# Altium footprint library Connectors.PcbLib: 73 footprints (part 4 of 5)
Each footprint in its own frame and in the unit in brackets; x right, y up, seen from the top. Pads: shape width x height; smd on the part's side, far side on the other; paste and mask are expansions set on the pad; w line width, h text height; cw(c..) or ccw(c..) is an arc to the next point about the centre after c.
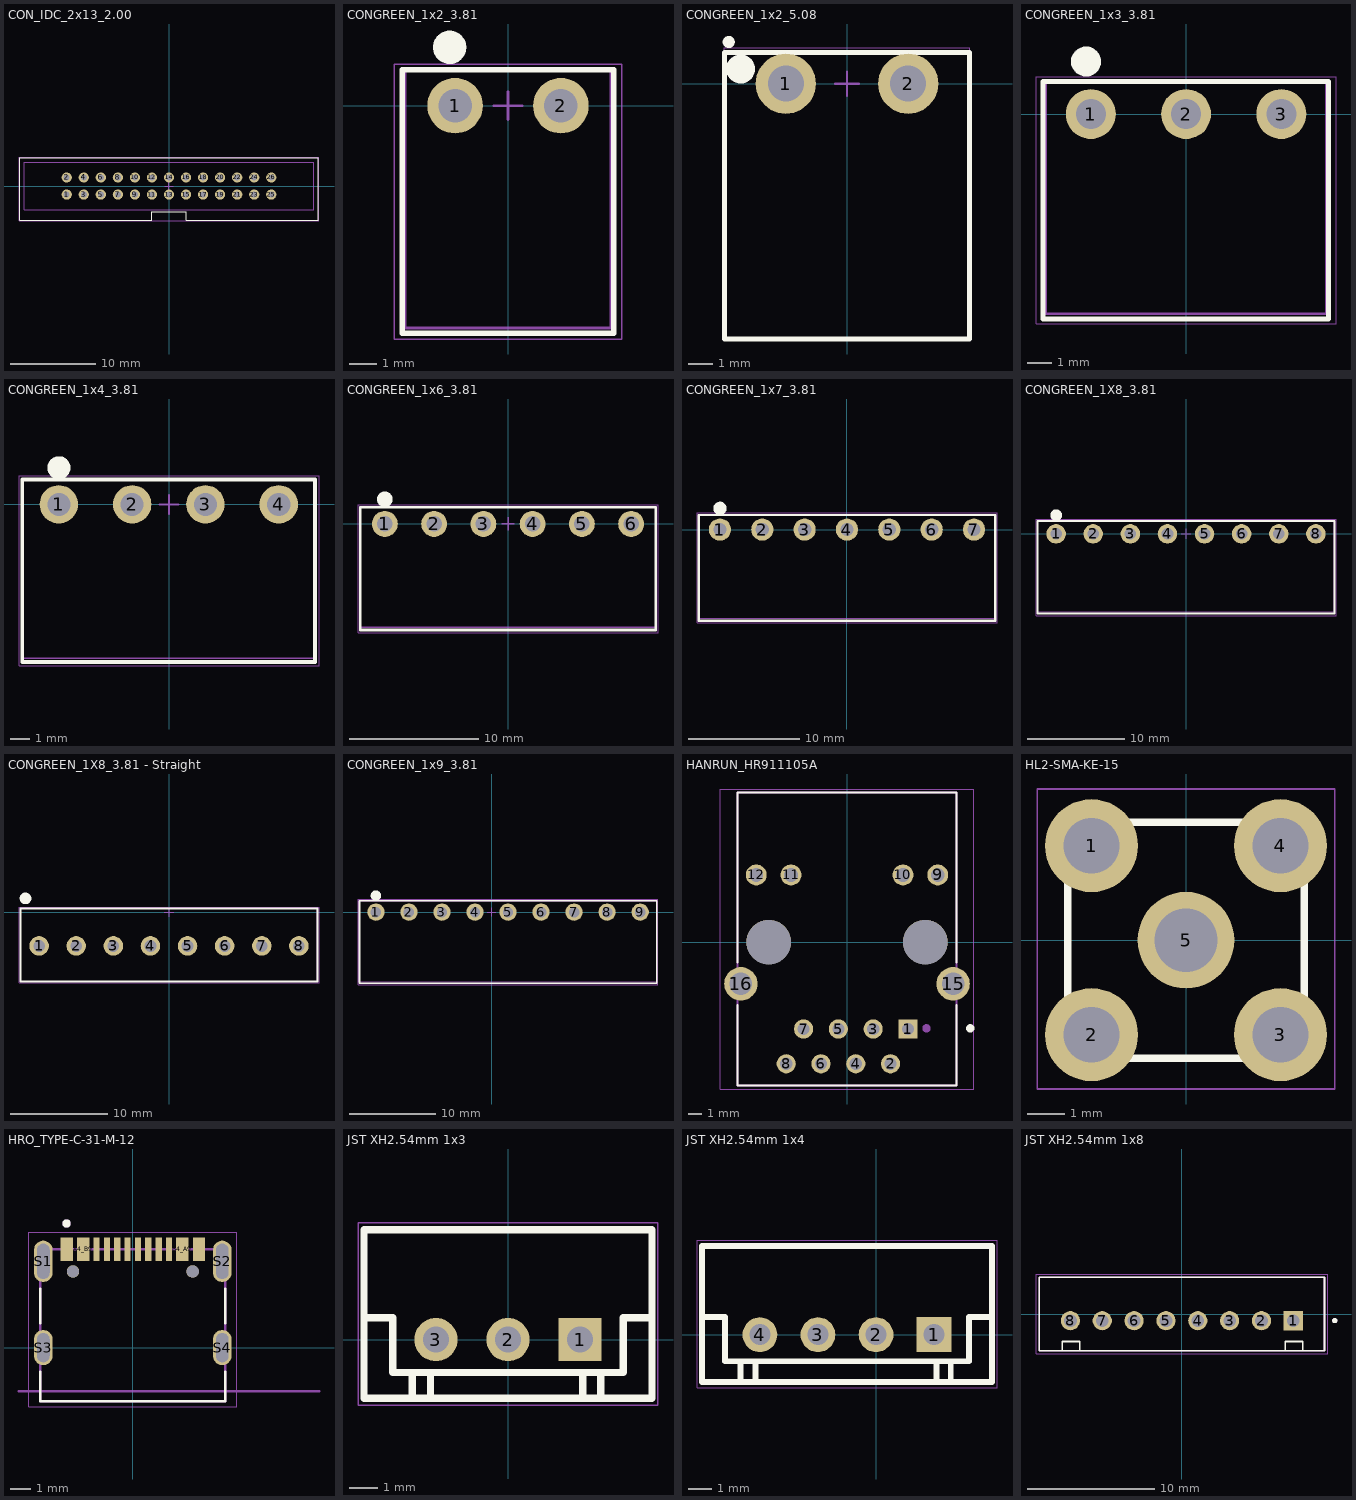
[diagram p3: the footprints below, top view; thin cyan lines are the x and y axes]

## CON_IDC_2x13_2.00 [mm]
height 1.4
pads (26):
  round 1.2 hole 0.7: 1(-12,-1) 2(-12,1) 3(-10,-1) 4(-10,1) 5(-8,-1) 6(-8,1) 7(-6,-1) 8(-6,1) 9(-4,-1) 10(-4,1) 11(-2,-1) 12(-2,1) 13(0,-1) 14(0,1) 15(2,-1) 16(2,1) 17(4,-1) 18(4,1) 19(6,-1) 20(6,1) 21(8,-1) 22(8,1) 23(10,-1) 24(10,1) 25(12,-1) 26(12,1)
Top Overlay:
  lines w0.1: -17.5,-4 -17.5,3.3 17.5,3.3 17.5,-4 2,-4 2,-3 -2,-3 -2,-4 -17.5,-4
Mechanical 13:
  lines w0.1: -17,-2.8 -17,2.8 17,2.8 17,-2.8 -17,-2.8
Mechanical 15:
  lines w0.05: -17.6,-4.1 -17.6,3.4 17.6,3.4 17.6,-4.1 -17.6,-4.1
  lines w0.1: -0.5,0 0.5,0 ; 0,-0.5 0,0.5
3D body: height 5.65, standoff 0.1, extent -17,-2.8 -16.7,2.8
3D body: height 5.65, standoff 0.1, extent 16.7,-2.8 17,2.8
3D body: height 5.65, standoff 0.1, extent -17,2.5 17,2.8
3D body: height 5.65, standoff 0.1, extent -17,-2.8 -2,-2.5
3D body: height 5.5, standoff -2.8, extent -12.2,-1.2 -11.8,-0.8
3D body: height 5.5, standoff -2.8, extent -10.2,-1.2 -9.8,-0.8
3D body: height 5.5, standoff -2.8, extent -8.2,-1.2 -7.8,-0.8
3D body: height 5.5, standoff -2.8, extent -6.2,-1.2 -5.8,-0.8
3D body: height 5.5, standoff -2.8, extent -4.2,-1.2 -3.8,-0.8
3D body: height 5.5, standoff -2.8, extent -2.2,-1.2 -1.8,-0.8
3D body: height 5.5, standoff -2.8, extent -0.2,-1.2 0.2,-0.8
3D body: height 5.5, standoff -2.8, extent 1.8,-1.2 2.2,-0.8
3D body: height 5.5, standoff -2.8, extent 3.8,-1.2 4.2,-0.8
3D body: height 5.5, standoff -2.8, extent 5.8,-1.2 6.2,-0.8
3D body: height 5.5, standoff -2.8, extent 7.8,-1.2 8.2,-0.8
3D body: height 5.5, standoff -2.8, extent 9.8,-1.2 10.2,-0.8
3D body: height 5.5, standoff -2.8, extent 11.8,-1.2 12.2,-0.8
3D body: height 5.5, standoff -2.8, extent 11.8,0.8 12.2,1.2
3D body: height 5.5, standoff -2.8, extent 9.8,0.8 10.2,1.2
3D body: height 5.5, standoff -2.8, extent 7.8,0.8 8.2,1.2
3D body: height 5.5, standoff -2.8, extent 5.8,0.8 6.2,1.2
3D body: height 5.5, standoff -2.8, extent 3.8,0.8 4.2,1.2
3D body: height 5.5, standoff -2.8, extent 1.8,0.8 2.2,1.2
3D body: height 5.5, standoff -2.8, extent -0.2,0.8 0.2,1.2
3D body: height 5.5, standoff -2.8, extent -2.2,0.8 -1.8,1.2
3D body: height 5.5, standoff -2.8, extent -4.2,0.8 -3.8,1.2
3D body: height 5.5, standoff -2.8, extent -6.2,0.8 -5.8,1.2
3D body: height 5.5, standoff -2.8, extent -8.2,0.8 -7.8,1.2
3D body: height 5.5, standoff -2.8, extent -10.2,0.8 -9.8,1.2
3D body: height 5.5, standoff -2.8, extent -12.2,0.8 -11.8,1.2
3D body: height 5.65, standoff 0.1, extent 2,-2.8 17,-2.5
3D body: height 1.4, standoff 0.1, extent -17,-2.8 17,2.8

## CONGREEN_1x2_3.81 [mm]
height 4.8
pads (2):
  round 2 hole 1.2: 1(-1.905,0) 2(1.905,0)
Top Overlay:
  circle w0.6: c-2.1,2.1 r0.3
  lines w0.2: -3.81,-8.2 -3.81,1.3 ; -3.8,-8.2 3.8,-8.2 ; -3.8,1.3 3.8,1.3 ; 3.81,-8.2 3.81,1.3
Mechanical 13:
  lines w0.1: -3.7,-8 3.7,-8 3.7,1.3 -3.7,1.3 -3.7,-8
Mechanical 15:
  lines w0.05: -4.1,-8.4 4.1,-8.4 4.1,1.5 -4.1,1.5 -4.1,-8.4
  lines w0.1: -0.5,0 0.5,0 ; 0,-0.5 0,0.5
3D body: height 3.6, standoff -3.6, extent 1.455,-0.45 2.355,0.45
3D body: height 3.8, standoff 3, extent 1.46,-7.6 2.36,0.4
3D body: height 6.8, standoff 6, extent -3.7,-8 3.8,1.29
3D body: height 0.9, standoff 0.1, extent -3.7,-8 3.7,1.29
3D body: height 6.8, standoff 0.1, extent -3.7,-1.5 3.7,1.35
3D body: height 3.8, standoff 3, extent -2.35,-7.6 -1.45,0.4
3D body: height 3.6, standoff -3.6, extent -2.355,-0.45 -1.455,0.45

## CONGREEN_1x2_5.08 [mm]
height 4.8
pads (2):
  round 2.5 hole 1.5: 1(-2.54,0) 2(2.54,0)
Top Overlay:
  circle w0.25: c-4.91,1.73 r0.125
  circle w0.6: c-4.42,0.61 r0.3
  lines w0.2: -5.08,-10.6 -5.08,1.3 5.08,1.3 5.08,-10.6 -5.08,-10.6
Mechanical 13:
  circle w0.1: c-4.43,0.61 r0.5
  lines w0.1: -5.08,-10.6 -5.08,1.3 5.08,1.3 5.08,-10.6 -5.08,-10.6
Mechanical 15:
  lines w0.05: -5.1,-10.6 -5.1,1.5 5.1,1.5 5.1,-10.6 -5.1,-10.6
  lines w0.1: -0.5,0 0.5,0 ; 0,-0.5 0,0.5
3D body: height 3.6, standoff -3.6, extent -3.04,-0.5 -2.04,0.5
3D body: height 3.6, standoff -3.6, extent 2.04,-0.5 3.04,0.5
3D body: height 4.6, standoff 3.6, extent 2.02,-9.5 3.02,0.55
3D body: height 4.6, standoff 3.6, extent -3.03,-9.5 -2.03,0.6
3D body: height 8.2, standoff 0.1, extent -5.08,-3.35 5.08,1.35
3D body: height 1.8, standoff 0.1, extent -5.08,-10.62 5.08,1.29
3D body: height 9, standoff 8.2, extent -5.09,-10.622 5.07,-7.9
3D body: height 8.2, standoff 6.5, extent -5.08,-10.62 5.08,1.29

## CONGREEN_1x3_3.81 [mm] "SOIC, 100-Leads, Body 64,17x3,05mm, Pitch 1,27mm, IPC Medium Density"
height 4.8
pads (3):
  round 2 hole 1.2: 1(-3.81,0) 2(0,0) 3(3.81,0)
Top Overlay:
  circle w0.6: c-4.005,2.1 r0.3
  lines w0.2: -5.715,-8.2 -5.715,1.3 ; -5.705,-8.2 5.7,-8.2 5.7,1.3 -5.705,1.3
Mechanical 13:
  lines w0.1: -5.605,-8 -5.605,1.3 5.6,1.3 5.6,-8 -5.605,-8
Mechanical 15:
  lines w0.05: -6.005,-8.4 -6.005,1.5 6,1.5 6,-8.4 -6.005,-8.4
  lines w0.1: -0.505,0 0.495,0 ; -0.005,-0.5 -0.005,0.5 ; 3.305,0 4.305,0 ; 3.805,-0.5 3.805,0.5
3D body: height 3.6, standoff -3.6, extent 3.36,-0.45 4.26,0.45
3D body: height 3.8, standoff 3, extent 3.365,-7.6 4.265,0.4
3D body: height 3.6, standoff -3.6, extent -4.26,-0.45 -3.36,0.45
3D body: height 3.8, standoff 3, extent -4.255,-7.6 -3.355,0.4
3D body: height 6.8, standoff 0.1, extent -5.605,-1.5 5.6,1.35
3D body: height 0.9, standoff 0.1, extent -5.605,-8 5.6,1.29
3D body: height 6.8, standoff 6, extent -5.605,-8 5.6,1.29
3D body: height 3.8, standoff 3, extent -0.445,-7.6 0.455,0.4
3D body: height 3.6, standoff -3.6, extent -0.45,-0.45 0.45,0.45

## CONGREEN_1x4_3.81 [mm] "SOIC, 100-Leads, Body 64,17x3,05mm, Pitch 1,27mm, IPC Medium Density"
height 4.8
pads (4):
  round 2 hole 1.2: 1(-5.725,0) 2(-1.915,0) 3(1.895,0) 4(5.705,0)
Top Overlay:
  circle w0.6: c-5.725,1.905 r0.3
  lines w0.2: -7.63,-8.2 7.6,-8.2 7.6,1.3 -7.63,1.3 -7.63,-8.2
Mechanical 13:
  lines w0.1: -7.63,-8 7.6,-8 7.6,1.3 -7.63,1.3 -7.63,-8
Mechanical 15:
  lines w0.05: -7.8,-8.4 7.8,-8.4 7.8,1.5 -7.8,1.5 -7.8,-8.4
  lines w0.1: -0.5,0 0.5,0 ; 0,-0.5 0,0.5
3D body: height 6.8, standoff 6, extent -7.63,-8 7.6,1.29
3D body: height 0.9, standoff 0.1, extent -7.63,-8 7.6,1.3
3D body: height 6.8, standoff 0.1, extent -7.63,-1.5 7.6,1.35
3D body: height 3.8, standoff 3, extent 5.26,-7.6 6.16,0.4
3D body: height 3.6, standoff -3.6, extent 5.255,-0.45 6.155,0.45
3D body: height 3.6, standoff -3.6, extent 1.445,-0.45 2.345,0.45
3D body: height 3.8, standoff 3, extent 1.45,-7.6 2.35,0.4
3D body: height 3.6, standoff -3.6, extent -2.365,-0.45 -1.465,0.45
3D body: height 3.8, standoff 3, extent -2.36,-7.6 -1.46,0.4
3D body: height 3.6, standoff -3.6, extent -6.175,-0.45 -5.275,0.45
3D body: height 3.8, standoff 3, extent -6.17,-7.6 -5.27,0.4

## CONGREEN_1x6_3.81 [mm] "SOIC, 100-Leads, Body 64,17x3,05mm, Pitch 1,27mm, IPC Medium Density"
height 4.8
pads (6):
  round 2 hole 1.2: 1(-9.525,0) 2(-5.715,0) 3(-1.905,0) 4(1.905,0) 5(5.715,0) 6(9.525,0)
Top Overlay:
  circle w0.6: c-9.525,1.905 r0.3
  lines w0.2: -11.43,-8.2 -11.43,1.3 11.43,1.3 11.43,-8.2 -11.43,-8.2
Mechanical 13:
  lines w0.1: -11.43,-8 -11.43,1.3 11.43,1.3 11.43,-8 -11.43,-8
Mechanical 15:
  lines w0.05: -11.6,-8.4 -11.6,1.5 11.6,1.5 11.6,-8.4 -11.6,-8.4
  lines w0.1: -0.5,0 0.5,0 ; 0,-0.5 0,0.5
3D body: height 3.8, standoff 3, extent 9.08,-7.6 9.98,0.4
3D body: height 3.6, standoff -3.6, extent 9.075,-0.45 9.975,0.45
3D body: height 3.8, standoff 3, extent -9.97,-7.6 -9.07,0.4
3D body: height 3.6, standoff -3.6, extent -9.975,-0.45 -9.075,0.45
3D body: height 3.8, standoff 3, extent -6.16,-7.6 -5.26,0.4
3D body: height 3.6, standoff -3.6, extent -6.165,-0.45 -5.265,0.45
3D body: height 3.8, standoff 3, extent -2.35,-7.6 -1.45,0.4
3D body: height 3.6, standoff -3.6, extent -2.355,-0.45 -1.455,0.45
3D body: height 3.6, standoff -3.6, extent 1.455,-0.45 2.355,0.45
3D body: height 3.8, standoff 3, extent 1.46,-7.6 2.36,0.4
3D body: height 6.8, standoff 0.1, extent -11.43,-1.5 11.43,1.35
3D body: height 0.9, standoff 0.1, extent -11.43,-8 11.43,1.29
3D body: height 6.8, standoff 6, extent -11.43,-8 11.43,1.29
3D body: height 3.8, standoff 3, extent 5.27,-7.6 6.17,0.4
3D body: height 3.6, standoff -3.6, extent 5.265,-0.45 6.165,0.45

## CONGREEN_1x7_3.81 [mm]
height 4.8
pads (7):
  round 2 hole 1.2: 1(-11.43,0) 2(-7.62,0) 3(-3.81,0) 4(0,0) 5(3.81,0) 6(7.62,0) 7(11.43,0)
Top Overlay:
  circle w0.6: c-11.43,1.905 r0.3
  lines w0.2: -13.335,-8.2 13.335,-8.2 13.335,1.3 -13.335,1.3 -13.335,-8.2
Mechanical 13:
  lines w0.1: -13.335,-8 13.335,-8 13.335,1.3 -13.335,1.3 -13.335,-8
Mechanical 15:
  lines w0.05: -13.495,-8.4 13.5,-8.4 13.5,1.5 -13.495,1.5 -13.495,-8.4
  lines w0.1: -0.5,0 0.5,0 ; 0,-0.5 0,0.5
3D body: height 3.6, standoff -3.6, extent 3.36,-0.45 4.26,0.45
3D body: height 3.8, standoff 3, extent 3.365,-7.6 4.265,0.4
3D body: height 6.8, standoff 6, extent -13.335,-8 13.335,1.29
3D body: height 0.9, standoff 0.1, extent -13.335,-8 13.335,1.29
3D body: height 6.8, standoff 0.1, extent -13.335,-1.5 13.335,1.35
3D body: height 3.8, standoff 3, extent -0.445,-7.6 0.455,0.4
3D body: height 3.6, standoff -3.6, extent -0.45,-0.45 0.45,0.45
3D body: height 3.6, standoff -3.6, extent -4.26,-0.45 -3.36,0.45
3D body: height 3.8, standoff 3, extent -4.255,-7.6 -3.355,0.4
3D body: height 3.6, standoff -3.6, extent -8.07,-0.45 -7.17,0.45
3D body: height 3.8, standoff 3, extent -8.065,-7.6 -7.165,0.4
3D body: height 3.6, standoff -3.6, extent -11.88,-0.45 -10.98,0.45
3D body: height 3.8, standoff 3, extent -11.875,-7.6 -10.975,0.4
3D body: height 3.6, standoff -3.6, extent 7.17,-0.45 8.07,0.45
3D body: height 3.8, standoff 3, extent 7.175,-7.6 8.075,0.4
3D body: height 3.6, standoff -3.6, extent 10.98,-0.45 11.88,0.45
3D body: height 3.8, standoff 3, extent 10.985,-7.6 11.885,0.4

## CONGREEN_1X8_3.81 [mm] "SOIC, 100-Leads, Body 64,17x3,05mm, Pitch 1,27mm, IPC Medium Density"
height 4.8
pads (8):
  round 2 hole 1.2: 1(-13.335,0) 2(-9.525,0) 3(-5.715,0) 4(-1.905,0) 5(1.905,0) 6(5.715,0) 7(9.525,0) 8(13.335,0)
Top Overlay:
  circle w0.6: c-13.335,1.905 r0.3
  lines w0.2: -15.24,-8.2 15.24,-8.2 15.24,1.3 -15.24,1.3 -15.24,-8.2
Mechanical 13:
  lines w0.1: -15.24,-8 15.24,-8 15.24,1.3 -15.24,1.3 -15.24,-8
Mechanical 15:
  lines w0.05: -15.4,-8.4 15.4,-8.4 15.4,1.5 -15.4,1.5 -15.4,-8.4
  lines w0.1: -0.5,0 0.5,0 ; 0,-0.5 0,0.5
3D body: height 3.6, standoff -3.6, extent 1.455,-0.45 2.355,0.45
3D body: height 3.8, standoff 3, extent 1.46,-7.6 2.36,0.4
3D body: height 6.8, standoff 6, extent -15.24,-8 15.24,1.29
3D body: height 0.9, standoff 0.1, extent -15.24,-8 15.24,1.29
3D body: height 6.8, standoff 0.1, extent -15.24,-1.5 15.24,1.35
3D body: height 3.8, standoff 3, extent -2.35,-7.6 -1.45,0.4
3D body: height 3.6, standoff -3.6, extent -2.355,-0.45 -1.455,0.45
3D body: height 3.6, standoff -3.6, extent -6.165,-0.45 -5.265,0.45
3D body: height 3.8, standoff 3, extent -6.16,-7.6 -5.26,0.4
3D body: height 3.6, standoff -3.6, extent -9.975,-0.45 -9.075,0.45
3D body: height 3.8, standoff 3, extent -9.97,-7.6 -9.07,0.4
3D body: height 3.6, standoff -3.6, extent -13.785,-0.45 -12.885,0.45
3D body: height 3.8, standoff 3, extent -13.78,-7.6 -12.88,0.4
3D body: height 3.6, standoff -3.6, extent 5.265,-0.45 6.165,0.45
3D body: height 3.8, standoff 3, extent 5.27,-7.6 6.17,0.4
3D body: height 3.6, standoff -3.6, extent 9.075,-0.45 9.975,0.45
3D body: height 3.8, standoff 3, extent 9.08,-7.6 9.98,0.4
3D body: height 3.6, standoff -3.6, extent 12.885,-0.45 13.785,0.45
3D body: height 3.8, standoff 3, extent 12.89,-7.6 13.79,0.4

## CONGREEN_1X8_3.81 - Straight [mm] "Straight Pin 3.81MM Pitch green connector"
height 4.8
pads (8):
  round 2 hole 1.2: 1(-13.335,-3.48) 2(-9.525,-3.48) 3(-5.715,-3.48) 4(-1.905,-3.48) 5(1.905,-3.48) 6(5.715,-3.48) 7(9.525,-3.48) 8(13.335,-3.48)
Top Overlay:
  circle w0.6: c-14.732,1.397 r0.3
  lines w0.2: -15.24,-7.112 -15.24,0.381 15.24,0.381 15.24,-7.112 -15.24,-7.112
Mechanical 13:
  lines w0.1: -15.24,-7.112 -15.24,0.381 15.24,0.381 15.24,-7.112 -15.24,-7.112
Mechanical 15:
  lines w0.05: -15.4,-7.239 -15.4,0.508 15.4,0.508 15.4,-7.239 -15.4,-7.239
  lines w0.1: -0.5,0 0.5,0 ; 0,-0.5 0,0.5
3D body: height 6, standoff -1.2, extent -9.975,-3.93 -9.075,-3.03
3D body: height 6, standoff -1.2, extent 12.885,-3.93 13.785,-3.03
3D body: height 6, standoff -1.2, extent 9.075,-3.93 9.975,-3.03
3D body: height 6, standoff -1.2, extent 5.265,-3.93 6.165,-3.03
3D body: height 6, standoff -1.2, extent -13.785,-3.93 -12.885,-3.03
3D body: height 6, standoff -1.2, extent -6.165,-3.93 -5.265,-3.03
3D body: height 6, standoff -1.2, extent -2.355,-3.93 -1.455,-3.03
3D body: height 0.9, standoff 0.1, extent -15.24,-7.112 15.24,0.381
3D body: height 6, standoff -1.2, extent 1.455,-3.93 2.355,-3.03
3D body: height 8, standoff 0.1, extent -15.24,-0.381 15.24,0.381
3D body: height 8, standoff 0.1, extent -15.24,-7.112 15.24,-6.35

## CONGREEN_1x9_3.81 [mm] "SOIC, 100-Leads, Body 64,17x3,05mm, Pitch 1,27mm, IPC Medium Density"
height 4.8
pads (9):
  round 2 hole 1.2: 1(-13.335,0) 2(-9.525,0) 3(-5.715,0) 4(-1.905,0) 5(1.905,0) 6(5.715,0) 7(9.525,0) 8(13.335,0) 9(17.145,0)
Top Overlay:
  circle w0.6: c-13.335,1.905 r0.3
  lines w0.2: -15.24,-8.2 -15.24,1.3 19.05,1.3 19.05,-8.2 -15.24,-8.2
Mechanical 13:
  lines w0.1: -15.24,-8 -15.24,1.3 19.05,1.3 19.05,-8 -15.24,-8
Mechanical 15:
  lines w0.05: -15.4,-8.4 -15.4,1.5 19.2,1.5 19.2,-8.4 -15.4,-8.4
  lines w0.1: -0.5,0 0.5,0 ; 0,-0.5 0,0.5
3D body: height 3.8, standoff 3, extent 12.89,-7.6 13.79,0.4
3D body: height 3.6, standoff -3.6, extent 12.885,-0.45 13.785,0.45
3D body: height 3.8, standoff 3, extent 9.08,-7.6 9.98,0.4
3D body: height 3.6, standoff -3.6, extent 9.075,-0.45 9.975,0.45
3D body: height 3.8, standoff 3, extent 5.27,-7.6 6.17,0.4
3D body: height 3.6, standoff -3.6, extent 5.265,-0.45 6.165,0.45
3D body: height 3.8, standoff 3, extent -13.78,-7.6 -12.88,0.4
3D body: height 3.6, standoff -3.6, extent -13.785,-0.45 -12.885,0.45
3D body: height 3.8, standoff 3, extent -9.97,-7.6 -9.07,0.4
3D body: height 3.6, standoff -3.6, extent -9.975,-0.45 -9.075,0.45
3D body: height 3.8, standoff 3, extent -6.16,-7.6 -5.26,0.4
3D body: height 3.6, standoff -3.6, extent -6.165,-0.45 -5.265,0.45
3D body: height 3.6, standoff -3.6, extent -2.355,-0.45 -1.455,0.45
3D body: height 3.8, standoff 3, extent -2.35,-7.6 -1.45,0.4
3D body: height 6.8, standoff 0.1, extent -15.24,-1.5 19.05,1.35
3D body: height 0.9, standoff 0.1, extent -15.24,-8 19.05,1.29
3D body: height 6.8, standoff 6, extent -15.24,-8 19.05,1.29
3D body: height 3.8, standoff 3, extent 1.46,-7.6 2.36,0.4
3D body: height 3.6, standoff -3.6, extent 1.455,-0.45 2.355,0.45
3D body: height 3.6, standoff -3.6, extent 16.695,-0.45 17.595,0.45
3D body: height 3.8, standoff 3, extent 16.7,-7.6 17.6,0.4

## HANRUN_HR911105A [mm]
pads (16):
  rect 1.398x1.398 / inner round 1.398 / far side rect 1.398x1.398 hole 0.89: 1(4.45,-6.35)
  round 1.398 hole 0.89: 2(3.18,-8.89) 3(1.91,-6.35) 4(0.64,-8.89) 5(-0.63,-6.35) 6(-1.9,-8.89) 7(-3.17,-6.35) 8(-4.44,-8.89)
  round 1.53 hole 1.02: 9(6.625,4.9) 10(4.085,4.9) 11(-4.085,4.9) 12(-6.625,4.9)
  round 2.445 hole 1.63: 15(7.745,-3.05) 16(-7.745,-3.05)
  round 3.25 hole 3.25 unplated: ""(-5.715,0) ""(5.715,0)
Top Overlay:
  circle w0.3: c9,-6.3 r0.15
  lines w0.127: -8,-4.6 -8,-10.48 8,-10.48 8,-4.6 ; -8,-1.5 -8,10.92 8,10.92 8,-1.5
Mechanical 13:
  circle w0.3: c5.8,-6.3 r0.15
  lines w0.127: -8,-10.48 -8,10.92 8,10.92 8,-10.48 -8,-10.48
Mechanical 15:
  lines w0.05: -9.25,-10.73 -9.25,11.17 9.25,11.17 9.25,-10.73 -9.25,-10.73
3D body "step_temp.STEP": height 13.5, standoff -3.05, extent -8.02,-10.525 8.02,10.775

## HL2-SMA-KE-15 [mm] "Through Hole Coaxial Connector (RF) Adapters RoHS"
height 4.8
pads (5):
  round 2.5 hole 1.5: 1(-2.54,2.54) 2(-2.54,-2.54) 3(2.54,-2.54) 4(2.54,2.54)
  round 2.6 hole 1.7: 5(0,0)
Top Overlay:
  lines w0.2: -3.175,-3.175 3.175,-3.175 3.175,3.175 -3.175,3.175 -3.175,-3.175
Mechanical 13:
  lines w0.1: -3.175,-3.175 -3.175,3.175 3.175,3.175 3.175,-3.175 -3.175,-3.175
Mechanical 15:
  lines w0.05: -4,-4 4,-4 4,4.064 -4,4.064 -4,-4
  lines w0.1: -0.5,0 0.5,0 ; 0,-0.5 0,0.5
3D body: height 11, standoff 0.1, extent -3.175,-3.175 3.175,3.175

## HRO_TYPE-C-31-M-12 [mm]
height 3.26
pads (18):
  rect 0.6x1.14 smd mask+0.05: A1_B12(-3.2,4.75) A4_B9(-2.4,4.75) B1_A12(3.2,4.75) B4_A9(2.4,4.75)
  rect 0.3x1.14 smd mask+0.05: A5(-1.25,4.75) A6(-0.25,4.75) A7(0.25,4.75) A8(1.25,4.75) B5(1.75,4.75) B6(0.75,4.75) B7(-0.75,4.75) B8(-1.75,4.75)
  oval 0.9x2 hole 0.6 slot 1.7 at 90 deg: S1(-4.325,4.17) S2(4.325,4.17)
  oval 0.9x1.7 hole 0.6 slot 1.4 at 90 deg: S3(-4.325,0) S4(4.325,0)
  round 0.6 hole 0.6 unplated: ""(-2.89,3.68) ""(2.89,3.68)
Top Overlay:
  circle w0.2: c-3.2,6 r0.1
  lines w0.127: -4.47,-1.17 -4.47,-2.6 4.47,-2.6 4.47,-1.17 ; -4.47,1.17 -4.47,2.85 ; 4.47,1.17 4.47,2.85
Mechanical 13:
  circle w0.2: c-3.2,6 r0.1
  lines w0.127: -5.5,-2.11 9,-2.11 ; -4.47,-2.6 -4.47,4.75 4.47,4.75 4.47,-2.6 -4.47,-2.6
  text "PCB EDGE" at 5.2,-1.9 h0.61
Mechanical 15:
  lines w0.05: -5.025,-2.85 5.025,-2.85 5.025,5.57 -5.025,5.57 -5.025,-2.85
3D body "step_temp.STEP": height 3.31, standoff -0.99, extent -4.47,-2.6 4.47,5.305

## JST XH2.54mm 1x3 [mm]
pads (3):
  rect 1.5x1.5 hole 0.9 paste-2539.97 mask+0.051: 1(2.5,0)
  round 1.5 hole 0.9 paste-2539.97 mask+0.051: 2(0,0) 3(-2.5,0)
Top Overlay:
  lines w0.254: -5,0.762 -3.997,0.762 -3.997,-1.143 3.997,-1.143 3.997,0.762 5,0.762 ; -3.327,-1.932 -3.327,-1.143 ; -2.692,-1.932 -2.692,-1.143 ; 2.599,-1.932 2.599,-1.143 ; 3.216,-1.932 3.216,-1.143 ; -5,-2.032 5,-2.032 5,3.81 -5,3.81 -5,-2.032
Mechanical 15:
  lines w0.05: -5.207,-2.286 -5.207,4.064 5.207,4.064 5.207,-2.286 -5.207,-2.286
3D body "XH 2,54_3p (1).STEP": height 7.1, standoff -3.3, extent -4.95,-1.986 4.95,3.764

## JST XH2.54mm 1x4 [mm]
pads (4):
  rect 1.5x1.5 hole 0.9 paste-2539.97 mask+0.051: 1(2.5,0)
  round 1.5 hole 0.9 paste-2539.97 mask+0.051: 2(0,0) 3(-2.5,0) 4(-5,0)
Top Overlay:
  lines w0.254: -7.5,0.762 -6.497,0.762 -6.497,-1.143 -3.997,-1.143 3.997,-1.143 3.997,0.762 5,0.762 ; -5.827,-1.932 -5.827,-1.143 ; -5.192,-1.932 -5.192,-1.143 ; 2.599,-1.932 2.599,-1.143 ; 3.216,-1.932 3.216,-1.143 ; -7.5,-2.032 -7.5,3.81 -5,3.81 5,3.81 5,-2.032 -5,-2.032 -7.5,-2.032
Mechanical 15:
  lines w0.05: -7.707,-2.286 -5.207,-2.286 5.207,-2.286 5.207,4.064 -5.207,4.064 -7.707,4.064 -7.707,-2.286
3D body "XH 2,54_4p.STEP": height 7.1, standoff -3.3, extent -7.47,-1.986 4.93,3.764

## JST XH2.54mm 1x8 [mm]
pads (8):
  rect 1.508x1.508 / inner round 1.508 / far side rect 1.508x1.508 hole 1: 1(8.75,-0.525)
  round 1.508 hole 1: 2(6.25,-0.525) 3(3.75,-0.525) 4(1.25,-0.525) 5(-1.25,-0.525) 6(-3.75,-0.525) 7(-6.25,-0.525) 8(-8.75,-0.525)
Top Overlay:
  circle w0.2: c12,-0.525 r0.1
  lines w0.127: -9.398,-2.794 -9.398,-2.159 -8.001,-2.159 -8.001,-2.794 ; 8.102,-2.794 8.102,-2.159 9.499,-2.159 9.499,-2.794 ; -11.2,-2.875 11.2,-2.875 11.2,2.875 -11.2,2.875 -11.2,-2.875
Mechanical 13:
  circle w0.2: c12,-0.525 r0.1
  lines w0.127: -11.2,-2.875 11.2,-2.875 11.2,2.875 -11.2,2.875 -11.2,-2.875
Mechanical 15:
  lines w0.05: -11.45,-3.125 11.45,-3.125 11.45,3.125 -11.45,3.125 -11.45,-3.125
3D body "step_temp.STEP": height 7, standoff -3.4, extent -11.2,-2.875 11.2,2.875